# EAGLE library part AT91SAM7S (library at91sam7)
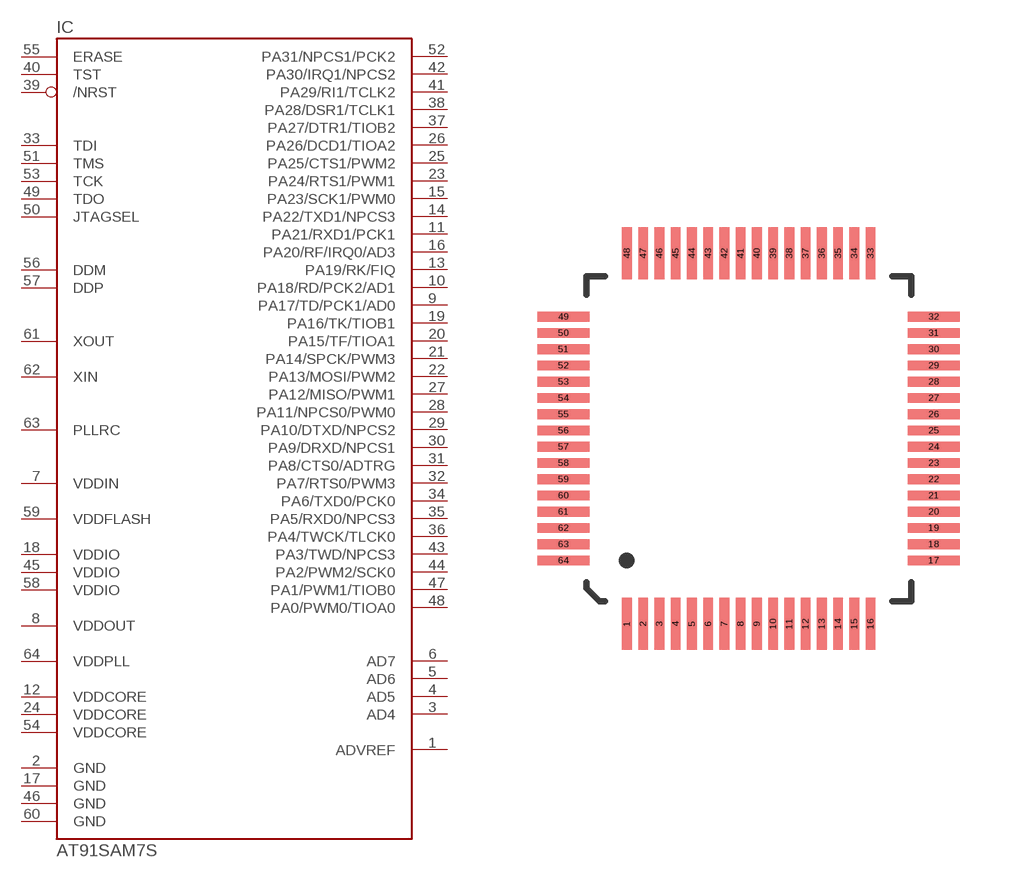
[diagram p0: symbol with the pads of LQFP64; footprint LQFP64]

Designator prefix IC

## AT91SAM7S-AU, AT91SAM7S64-AU, AT91SAM7S128-AU, AT91SAM7S256-AU, AT91SAM7S321-AU, AT91SAM7S512-AU  [LQFP64]
1  ADVREF  pas
2  GND  pwr
3  AD4  pas
4  AD5  pas
5  AD6  pas
6  AD7  pas
7  VDDIN  pwr
8  VDDOUT  pwr
9  PA17/TD/PCK1/AD0
10  PA18/RD/PCK2/AD1
11  PA21/RXD1/PCK1
12  VDDCORE  pwr
13  PA19/RK/FIQ
14  PA22/TXD1/NPCS3
15  PA23/SCK1/PWM0
16  PA20/RF/IRQ0/AD3
17  GND  pwr
18  VDDIO  pwr
19  PA16/TK/TIOB1
20  PA15/TF/TIOA1
21  PA14/SPCK/PWM3
22  PA13/MOSI/PWM2
23  PA24/RTS1/PWM1
24  VDDCORE  pwr
25  PA25/CTS1/PWM2
26  PA26/DCD1/TIOA2
27  PA12/MISO/PWM1
28  PA11/NPCS0/PWM0
29  PA10/DTXD/NPCS2
30  PA9/DRXD/NPCS1
31  PA8/CTS0/ADTRG
32  PA7/RTS0/PWM3
33  TDI  in
34  PA6/TXD0/PCK0
35  PA5/RXD0/NPCS3
36  PA4/TWCK/TLCK0
37  PA27/DTR1/TIOB2
38  PA28/DSR1/TCLK1
39  /NRST
40  TST  in
41  PA29/RI1/TCLK2
42  PA30/IRQ1/NPCS2
43  PA3/TWD/NPCS3
44  PA2/PWM2/SCK0
45  VDDIO  pwr
46  GND  pwr
47  PA1/PWM1/TIOB0
48  PA0/PWM0/TIOA0
49  TDO  out
50  JTAGSEL  in
51  TMS  in
52  PA31/NPCS1/PCK2
53  TCK  in
54  VDDCORE  pwr
55  ERASE  in
56  DDM  pas
57  DDP  pas
58  VDDIO  pwr
59  VDDFLASH  pwr
60  GND  pwr
61  XOUT  pas
62  XIN  pas
63  PLLRC  pas
64  VDDPLL  pwr

## Footprint LQFP64 (pad centres in mm)
smd 0.3 x 1.6: 1 -3.75,-5.7; 2 -3.25,-5.7; 3 -2.75,-5.7; 4 -2.25,-5.7; 5 -1.75,-5.7; 6 -1.25,-5.7; 7 -0.75,-5.7; 8 -0.25,-5.7; 9 0.25,-5.7; 10 0.75,-5.7; 11 1.25,-5.7; 12 1.75,-5.7; 13 2.25,-5.7; 14 2.75,-5.7; 15 3.25,-5.7; 16 3.75,-5.7; 33 3.75,5.7; 34 3.25,5.7; 35 2.75,5.7; 36 2.25,5.7; 37 1.75,5.7; 38 1.25,5.7; 39 0.75,5.7; 40 0.25,5.7; 41 -0.25,5.7; 42 -0.75,5.7; 43 -1.25,5.7; 44 -1.75,5.7; 45 -2.25,5.7; 46 -2.75,5.7; 47 -3.25,5.7; 48 -3.75,5.7
smd 1.6 x 0.3: 17 5.7,-3.75; 18 5.7,-3.25; 19 5.7,-2.75; 20 5.7,-2.25; 21 5.7,-1.75; 22 5.7,-1.25; 23 5.7,-0.75; 24 5.7,-0.25; 25 5.7,0.25; 26 5.7,0.75; 27 5.7,1.25; 28 5.7,1.75; 29 5.7,2.25; 30 5.7,2.75; 31 5.7,3.25; 32 5.7,3.75; 49 -5.7,3.75; 50 -5.7,3.25; 51 -5.7,2.75; 52 -5.7,2.25; 53 -5.7,1.75; 54 -5.7,1.25; 55 -5.7,0.75; 56 -5.7,0.25; 57 -5.7,-0.25; 58 -5.7,-0.75; 59 -5.7,-1.25; 60 -5.7,-1.75; 61 -5.7,-2.25; 62 -5.7,-2.75; 63 -5.7,-3.25; 64 -5.7,-3.75